# EAGLE library part TDA1558Q (library Power amplifier)
http://www.datasheetcatalog.com/datasheets_pdf/T/D/A/1/TDA1558.shtml
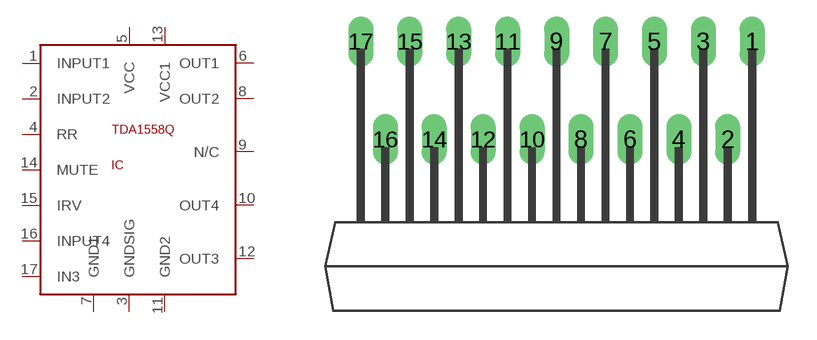
[diagram p1: symbol with the pads of SOT243-1; footprint SOT243-1]

Designator prefix IC

## TDA1558Q  [SOT243-1]
1  INPUT1  in
2  INPUT2  in
3  GNDSIG  pwr
4  RR  pas
5  VCC  pwr
6  OUT1  out
7  GND1  pwr
8  OUT2  out
9  N/C  nc
10  OUT4  out
11  GND2  pwr
12  OUT3  out
13  VCC1  pwr
14  MUTE  in
15  IRV
16  INPUT4  in
17  IN3  in

## Footprint SOT243-1 (pad centres in mm)
drill 0.8 long: 1 10.16,13.97; 2 8.89,8.89; 3 7.62,13.97; 4 6.35,8.89; 5 5.08,13.97; 6 3.81,8.89; 7 2.54,13.97; 8 1.27,8.89; 9 0,13.97; 10 -1.27,8.89; 11 -2.54,13.97; 12 -3.81,8.89; 13 -5.08,13.97; 14 -6.35,8.89; 15 -7.62,13.97; 16 -8.89,8.89; 17 -10.16,13.97